# Altium footprint library 901100401.PcbLib: 1 footprints
Each footprint in its own frame and in the unit in brackets; x right, y up, seen from the top. Pads: shape width x height; smd on the part's side, far side on the other; paste and mask are expansions set on the pad; w line width, h text height; cw(c..) or ccw(c..) is an arc to the next point about the centre after c.
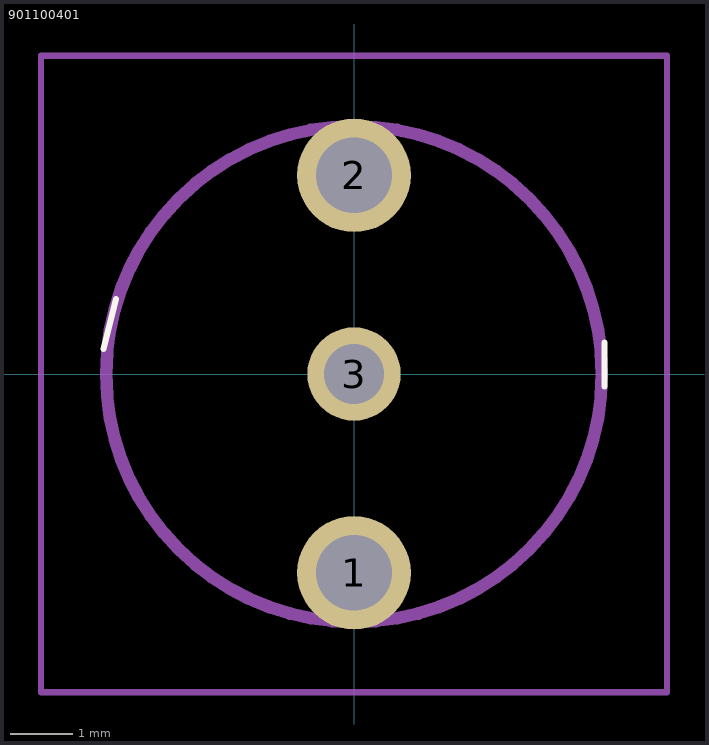
[diagram p0: the footprint, top view; thin cyan lines are the x and y axes]

## 901100401 [mm]
pads (3):
  round 1.815 hole 1.21: 1(0,-3.175) 2(0,3.175)
  round 1.493 hole 0.96: 3(0,0)
Top Overlay:
  lines w0.1: -4,0.4 -3.8,1.2 ; 4,-0.2 4,0.5
Mechanical 15:
  lines w0.2: 0,-3.96 cw(c0,0) 0,3.96 ; 0,-3.96 0,-3.96 ; 0,-3.96 ccw(c0,0) 0,3.96 ; 0,3.96 0,3.96
Mechanical 20:
  lines w0.1: -5,-5.082 5,-5.082 5,5.083 -5,5.083 -5,-5.082